# Altium footprint library ICfootprint3.PcbLib: 77 footprints (part 3 of 5)
Each footprint in its own frame and in the unit in brackets; x right, y up, seen from the top. Pads: shape width x height; smd on the part's side, far side on the other; paste and mask are expansions set on the pad; w line width, h text height; cw(c..) or ccw(c..) is an arc to the next point about the centre after c.
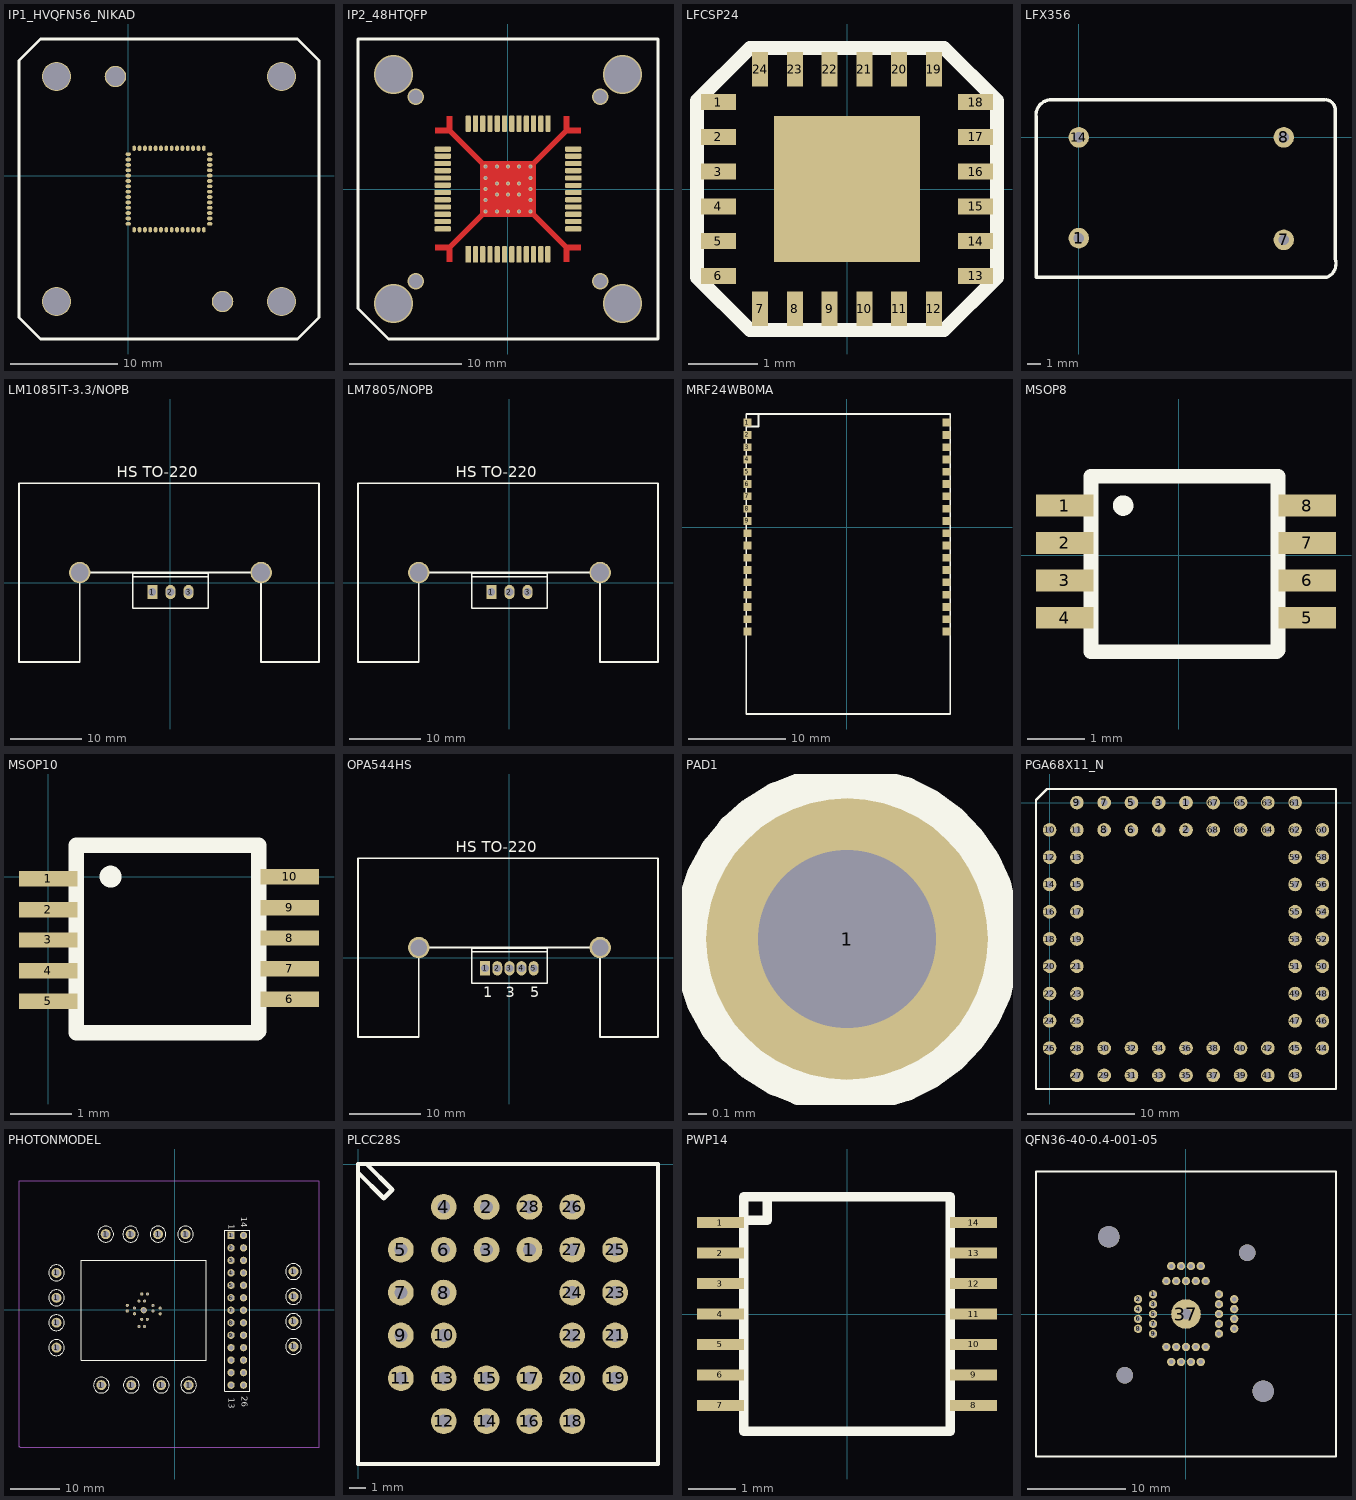
[diagram p2: the footprints below, top view; thin cyan lines are the x and y axes]

## IP1_HVQFN56_NIKAD [mm] "IP1 NICAD Socket"
pads (62):
  oval 0.5x0.35 smd: 1(0,2) 2(0,1.5) 3(0,1) 4(0,0.5) 5(0,0) 6(0,-0.5) 7(0,-1) 8(0,-1.5) 9(0,-2) 10(0,-2.5) 11(0,-3) 12(0,-3.5) 13(0,-4) 14(0,-4.5) 29(7.6,-4.5) 30(7.6,-4) 31(7.6,-3.5) 32(7.6,-3) 33(7.6,-2.5) 34(7.6,-2) 35(7.6,-1.5) 36(7.6,-1) 37(7.6,-0.5) 38(7.6,0) 39(7.6,0.5) 40(7.6,1) 41(7.6,1.5) 42(7.6,2)
  oval 0.35x0.5 smd: 15(0.55,-5.05) 16(1.05,-5.05) 17(1.55,-5.05) 18(2.05,-5.05) 19(2.55,-5.05) 20(3.05,-5.05) 21(3.55,-5.05) 22(4.05,-5.05) 23(4.55,-5.05) 24(5.05,-5.05) 25(5.55,-5.05) 26(6.05,-5.05) 27(6.55,-5.05) 28(7.05,-5.05) 43(7.05,2.55) 44(6.55,2.55) 45(6.05,2.55) 46(5.55,2.55) 47(5.05,2.55) 48(4.55,2.55) 49(4.05,2.55) 50(3.55,2.55) 51(3.05,2.55) 52(2.55,2.55) 53(2.05,2.55) 54(1.55,2.55) 55(1.05,2.55) 56(0.55,2.55)
  round 2.7 hole 2.5 unplated mask+0.051: ""(-6.7,-11.75) ""(-6.7,9.25) ""(14.3,-11.75) ""(14.3,9.25)
  round 2 hole 1.8 unplated mask+0.051: ""(-1.2,9.25) ""(8.8,-11.75)
Top Overlay:
  lines w0.254: -10.2,-13.25 -10.2,10.75 -8.2,12.75 15.8,12.75 17.8,10.75 17.8,-13.25 15.8,-15.25 -8.2,-15.25 -10.2,-13.25

## IP2_48HTQFP [mm] "IP2 SOCKET"
height 10.22
pads (48):
  rect 0.46x1.5 smd mask+0.05: 1(-3.562,-5.85)
  rrect50% 0.46x1.5 smd mask+0.05: 2(-2.912,-5.85) 3(-2.262,-5.85) 4(-1.612,-5.85) 5(-0.962,-5.85) 6(-0.312,-5.85) 7(0.338,-5.85) 8(0.988,-5.85) 9(1.638,-5.85) 10(2.288,-5.85) 11(2.938,-5.85) 12(3.563,-5.85) 25(3.575,5.85) 26(2.938,5.85) 27(2.288,5.85) 28(1.638,5.85) 29(0.988,5.85) 30(0.338,5.85) 31(-0.312,5.85) 32(-0.962,5.85) 33(-1.612,5.85) 34(-2.262,5.85) 35(-2.912,5.85) 36(-3.562,5.85)
  rrect50% 1.5x0.46 smd mask+0.05: 13(5.85,-3.562) 14(5.85,-2.913) 15(5.85,-2.262) 16(5.85,-1.613) 17(5.85,-0.962) 18(5.85,-0.313) 19(5.85,0.325) 20(5.85,0.987) 21(5.85,1.637) 22(5.85,2.287) 23(5.85,2.937) 24(5.85,3.562) 37(-5.85,3.562) 38(-5.85,2.937) 39(-5.85,2.287) 40(-5.85,1.637) 41(-5.85,0.987) 42(-5.85,0.337) 43(-5.85,-0.313) 44(-5.85,-0.962) 45(-5.85,-1.613) 46(-5.85,-2.262) 47(-5.85,-2.913) 48(-5.85,-3.562)
via -1,0.5 diameter 0.35 hole 0.2
via 1,0.5 diameter 0.35 hole 0.2
via 0,0.5 diameter 0.35 hole 0.2
via -1,-0.5 diameter 0.35 hole 0.2
via 0,-0.5 diameter 0.35 hole 0.22
via 1,-0.5 diameter 0.35 hole 0.2
via -1,2 diameter 0.35 hole 0.2
via -2,2 diameter 0.35 hole 0.2
via 0,2 diameter 0.35 hole 0.2
via 1,2 diameter 0.35 hole 0.2
via 2,2 diameter 0.35 hole 0.2
via 2,1 diameter 0.35 hole 0.2
via 2,0 diameter 0.35 hole 0.2
via 2,-1 diameter 0.35 hole 0.2
via 2,-2 diameter 0.35 hole 0.2
via 1,-2 diameter 0.35 hole 0.2
via 0,-2 diameter 0.35 hole 0.2
via -1,-2 diameter 0.35 hole 0.2
via -2,-2 diameter 0.35 hole 0.2
via -2,-1 diameter 0.35 hole 0.2
via -2,0 diameter 0.35 hole 0.2
via -2,1 diameter 0.35 hole 0.2
via 10.255,10.255 diameter 3.5 hole 3.2
via -10.255,10.255 diameter 3.5 hole 3.2
via -10.255,-10.255 diameter 3.5 hole 3.2
via 10.255,-10.255 diameter 3.5 hole 3.2
via 8.255,8.255 diameter 1.5 hole 1.2
via 8.255,-8.255 diameter 1.5 hole 1.2
via -8.255,-8.255 diameter 1.5 hole 1.2
via -8.255,8.255 diameter 1.5 hole 1.2
Top Layer:
  rectangle: -2.5,-2.5 2.5,2.5
  region: 5,6.5 5,5 6.5,5 6.5,5.5 5.5,5.5 5.5,6.5
  region: -6.5,5 -5,5 -5,6.5 -5.5,6.5 -5.5,5.5 -6.5,5.5
  region: -5,-6.5 -5,-5 -6.5,-5 -6.5,-5.5 -5.5,-5.5 -5.5,-6.5
  region: 6.5,-5 5,-5 5,-6.5 5.5,-6.5 5.5,-5.5 6.5,-5.5
  lines w0.5: -5.25,-5.25 -2,-2 ; -5.25,5.25 -2,2 ; 2,-2 5.25,-5.25 ; 2,2 5.25,5.25
Top Overlay:
  lines w0.254: -13.43,-10.7 -10.7,-13.43 13.43,-13.43 13.43,13.43 0,13.43 -13.43,13.43 -13.43,-9.43 -13.43,-10.7

## LFCSP24 [mm]
pads (25):
  rect 0.5x0.23 smd mask+0.02: 1(-1.85,1.25) 2(-1.85,0.75) 3(-1.85,0.25) 4(-1.85,-0.25) 5(-1.85,-0.75) 6(-1.85,-1.25) 13(1.85,-1.25) 14(1.85,-0.75) 15(1.85,-0.25) 16(1.85,0.25) 17(1.85,0.75) 18(1.85,1.25)
  rect 0.23x0.5 smd mask+0.02: 7(-1.25,-1.725) 8(-0.75,-1.725) 9(-0.25,-1.725) 10(0.25,-1.725) 11(0.75,-1.725) 12(1.25,-1.725) 19(1.25,1.725) 20(0.75,1.725) 21(0.25,1.725) 22(-0.25,1.725) 23(-0.75,1.725) 24(-1.25,1.725)
  rect 2.1x2.1 smd mask+0.02: ""(0,0)
Top Overlay:
  lines w0.203: -2.159,-1.27 -2.159,1.27 -1.397,2.032 1.397,2.032 2.159,1.27 2.159,-1.27 1.397,-2.032 -1.397,-2.032 -2.159,-1.27

## LFX356 [mil] "20 MHz Oscillator"
pads (4):
  round 60 hole 30: 1(0,-295) 7(600,-300) 8(600,0) 14(0,0)
Top Overlay:
  lines w10: 720,110 -85,110 ccw(c-80,65) -125,60 -125,-370 -125,-410 725,-410 ccw(c710,-370) 750,-355 750,75 ccw(c720,80) 725,110

## LM1085IT-3.3/NOPB [mm]
pads (5):
  rect 1.4x2 hole 1.1: 1(-2.54,-1.27)
  oval 1.4x2 hole 1.1: 2(0,-1.27) 3(2.54,-1.27)
  round 3 hole 2.5 mask+0: ""(-12.7,1.45) ""(12.7,1.45)
Top Overlay:
  lines w0.2: -5.3,0.85 5.3,0.85 ; -5.3,-3.55 -5.3,1.35 5.3,1.35 5.3,-3.55 -5.3,-3.55
  lines w0.254: -21.2,-11.05 -12.7,-11.05 -12.7,1.45 12.7,1.45 12.7,-11.05 20.8,-11.05 20.8,13.95 -21.2,13.95 -21.2,-11.05
  text "HS TO-220" at -7.518,14.831 h1.52

## LM7805/NOPB [mm]
pads (5):
  rect 1.4x2 hole 1.1: 1(-2.54,-1.27)
  oval 1.4x2 hole 1.1: 2(0,-1.27) 3(2.54,-1.27)
  round 3 hole 2.5 mask+0: ""(-12.7,1.45) ""(12.7,1.45)
Top Overlay:
  lines w0.2: -5.3,0.85 5.3,0.85 ; -5.3,-3.55 5.3,-3.55 5.3,1.35 -5.3,1.35 -5.3,-3.55
  lines w0.254: -21.2,-11.05 -21.2,13.95 20.8,13.95 20.8,-11.05 12.7,-11.05 12.7,1.45 -12.7,1.45 -12.7,-11.05 -21.2,-11.05
  text "HS TO-220" at -7.518,14.831 h1.52

## MRF24WB0MA [mm] "WiFi module"
pads (36):
  rect 0.85x0.8 smd mask+0: 1(-10.287,10.795) 2(-10.287,9.525) 3(-10.287,8.255) 4(-10.287,6.985) 5(-10.287,5.715) 6(-10.287,4.445) 7(-10.287,3.175) 8(-10.287,1.905) 9(-10.287,0.635) 10(-10.287,-0.635) 11(-10.287,-1.905) 12(-10.287,-3.175) 13(-10.287,-4.445) 14(-10.287,-5.715) 15(-10.287,-6.985) 16(-10.287,-8.255) 17(-10.287,-9.525) 18(-10.287,-10.795) 19(10.288,-10.795) 20(10.288,-9.525) 21(10.288,-8.255) 22(10.288,-6.985) 23(10.288,-5.715) 24(10.288,-4.445) 25(10.288,-3.175) 26(10.288,-1.905) 27(10.288,-0.635) 28(10.288,0.635) 29(10.288,1.905) 30(10.288,3.175) 31(10.288,4.445) 32(10.288,5.715) 33(10.288,6.985) 34(10.288,8.255) 35(10.288,9.525) 36(10.288,10.795)
Top Overlay:
  lines w0.2: -10.414,10.414 -9.144,10.414 -9.144,11.684 ; 10.586,-19.316 -10.414,-19.316 -10.414,11.684 10.586,11.684 ; 10.668,-19.316 10.668,11.684

## MSOP8 [mm]
pads (8):
  rect 1x0.38 smd: 1(-1.981,0.864) 2(-1.981,0.214) 3(-1.981,-0.436) 4(-1.981,-1.086) 5(2.235,-1.086) 6(2.235,-0.436) 7(2.235,0.214) 8(2.235,0.864)
Top Overlay:
  circle w0.254: c-0.965,0.864 r0.051
  lines w0.254: -1.524,-1.676 -1.524,1.372 1.727,1.372 1.727,-1.651 1.702,-1.676 -1.524,-1.676

## MSOP10 [mm]
pads (10):
  rect 0.95x0.25 smd: 1(0,-0.032) 2(0,-0.54) 3(0,-1.032) 4(0,-1.532) 5(0,-2.032) 6(3.937,-2) 7(3.937,-1.5) 8(3.937,-1) 9(3.937,-0.508) 10(3.937,0)
Top Overlay:
  circle w0.254: c1.016,0 r0.051
  lines w0.254: 3.404,-2.54 0.457,-2.54 0.457,0.508 3.429,0.508 3.429,-2.515

## OPA544HS [mm]
pads (7):
  rect 1.4x2 hole 1.1: 1(-3.4,-1.45)
  oval 1.4x2 hole 1.1: 2(-1.7,-1.45) 3(0,-1.45) 4(1.7,-1.45) 5(3.4,-1.45)
  round 3 hole 2.3 mask+0: ""(-12.7,1.45) ""(12.7,1.45)
Top Overlay:
  lines w0.2: -5.3,0.85 5.3,0.85 ; -5.3,-3.55 5.3,-3.55 5.3,1.35 -5.3,1.35 -5.3,-3.55
  lines w0.254: -21.2,-11.05 -21.2,13.95 20.8,13.95 20.8,-11.05 12.7,-11.05 12.7,1.45 -12.7,1.45 -12.7,-11.05 -21.2,-11.05
  text "1" at -3.65,-5.525 h1.5
  text "3" at -0.5,-5.525 h1.5
  text "5" at 2.9,-5.525 h1.5
  text "HS TO-220" at -7.518,14.831 h1.52

## PAD1 [mil] "PAD 38 mill"
pads (1):
  round 60 hole 38: 1(0,0)
Top Overlay:
  circle w10: c0,0 r31.94

## PGA68X11_N [mm]
pads (68):
  round 1.27 hole 0.635: 1(12.7,0) 2(12.7,-2.54) 3(10.16,0) 4(10.16,-2.54) 5(7.62,0) 6(7.62,-2.54) 7(5.08,0) 8(5.08,-2.54) 9(2.54,0) 10(0,-2.54) 11(2.54,-2.54) 12(0,-5.08) 13(2.54,-5.08) 14(0,-7.62) 15(2.54,-7.62) 16(0,-10.16) 17(2.54,-10.16) 18(0,-12.7) 19(2.54,-12.7) 20(0,-15.24) 21(2.54,-15.24) 22(0,-17.78) 23(2.54,-17.78) 24(0,-20.32) 25(2.54,-20.32) 26(0,-22.86) 27(2.54,-25.4) 28(2.54,-22.86) 29(5.08,-25.4) 30(5.08,-22.86) 31(7.62,-25.4) 32(7.62,-22.86) 33(10.16,-25.4) 34(10.16,-22.86) 35(12.7,-25.4) 36(12.7,-22.86) 37(15.24,-25.4) 38(15.24,-22.86) 39(17.78,-25.4) 40(17.78,-22.86) 41(20.32,-25.4) 42(20.32,-22.86) 43(22.86,-25.4) 44(25.4,-22.86) 45(22.86,-22.86) 46(25.4,-20.32) 47(22.86,-20.32) 48(25.4,-17.78) 49(22.86,-17.78) 50(25.4,-15.24) 51(22.86,-15.24) 52(25.4,-12.7) 53(22.86,-12.7) 54(25.4,-10.16) 55(22.86,-10.16) 56(25.4,-7.62) 57(22.86,-7.62) 58(25.4,-5.08) 59(22.86,-5.08) 60(25.4,-2.54) 61(22.86,0) 62(22.86,-2.54) 63(20.32,0) 64(20.32,-2.54) 65(17.78,0) 66(17.78,-2.54) 67(15.24,0) 68(15.24,-2.54)
Top Overlay:
  lines w0.203: -1.27,-26.67 26.67,-26.67 26.67,1.27 -0.254,1.27 -1.27,0.254 -1.27,-26.67

## PHOTONMODEL [mil]
pads (59):
  round 80 hole 50: 1(-950,-305) 1(-950,-105) 1(-950,95) 1(-950,295) 1(-590,-605) 1(-555,605) 1(-355,605) 1(-350,-605) 1(-135,605) 1(-110,-605) 1(85,605) 1(110,-605) 1(950,-295) 1(950,-95) 1(950,105) 1(950,305)
  round 25 hole 15 mask+2: 1(-381.95,34.59) 2(-324.12,11.96) 3(-381.95,-10.68) 4(-324.12,-33.32) 5(-289.07,-135.52) 6(-266.43,-77.7) 7(-243.79,-135.52) 8(-221.15,-77.7) 9(-118.05,-33.41) 10(-175.88,-10.77) 11(-118.05,11.87) 12(-175.88,34.51) 13(-220.54,125.52) 14(-243.79,67.8) 15(-265.82,125.52) 16(-288.45,67.7)
  round 50 hole 38 mask+2: 1(-250.15,-4.3)
  rect 59.06x59.06 hole 35.43: 1(450,595)
  round 59.06 hole 35.43: 2(450,495) 3(450,395) 4(450,295) 5(450,195) 6(450,95) 7(450,-5) 8(450,-105) 9(450,-205) 10(450,-305) 11(450,-405) 12(450,-505) 13(450,-605) 14(550,595) 15(550,495) 16(550,395) 17(550,295) 18(550,195) 19(550,95) 20(550,-5) 21(550,-105) 22(550,-205) 23(550,-305) 24(550,-405) 25(550,-505) 26(550,-605)
Top Overlay:
  circle w10: c-555,605 r63.25
  circle w10: c-355,605 r63.25
  circle w10: c85,605 r63.25
  circle w10: c-135,605 r63.25
  circle w10: c950,305 r63.25
  circle w10: c950,105 r63.25
  circle w10: c950,-95 r63.25
  circle w10: c950,-295 r63.25
  circle w10: c110,-605 r63.25
  circle w10: c-350,-605 r63.25
  circle w10: c-110,-605 r63.25
  circle w10: c-590,-605 r63.25
  circle w10: c-950,-305 r63.25
  circle w10: c-950,-105 r63.25
  circle w10: c-950,95 r63.25
  circle w10: c-950,295 r63.25
  lines w7.87: -750,-405 -750,-5 -750,395 -250,395 250,395 250,-5 250,-405 -250,-405 -750,-405 ; 400,-655 400,636.67 600,636.67 600,-655 400,-655
  text "1" at 430,685 h50
  text "14" at 530,745 h50
  text "13" at 430,-705 h50
  text "26" at 535,-695 h50
Drill Guide:
  circle w10: c951.26,895 r78.74
  circle w10: c-948.74,-905 r78.74
  circle w10: c-5.15,240.7 r33
  circle w10: c-495.15,-249.3 r33
Mechanical 1:
  lines w7.87: -1250,-1105 -1250,995 -1250,1035 1155,1035 1155,-1105 -1240,-1105 -1250,-1095

## PLCC28S [mil] "PLCC socket"
pads (28):
  round 60 hole 30: 1(400,-200) 2(300,-100) 3(300,-200) 4(200,-100) 5(100,-200) 6(200,-200) 7(100,-300) 8(200,-300) 9(100,-400) 10(200,-400) 11(100,-500) 12(200,-600) 13(200,-500) 14(300,-600) 15(300,-500) 16(400,-600) 17(400,-500) 18(500,-600) 19(600,-500) 20(500,-500) 21(600,-400) 22(500,-400) 23(600,-300) 24(500,-300) 25(600,-200) 26(500,-100) 27(500,-200) 28(400,-100)
Top Overlay:
  lines w10: 0,-20 60,-80 80,-60 20,0 ; 0,-700 700,-700 700,0 0,0 0,-700

## PWP14 [mm]
pads (14):
  rect 1x0.24 smd mask+0: 1(-2.7,1.95) 2(-2.7,1.3) 3(-2.7,0.65) 4(-2.7,0) 5(-2.7,-0.65) 6(-2.7,-1.3) 7(-2.7,-1.95) 8(2.7,-1.95) 9(2.7,-1.3) 10(2.7,-0.65) 11(2.7,0) 12(2.7,0.65) 13(2.7,1.3) 14(2.7,1.95)
Top Overlay:
  lines w0.2: -2.2,2 -1.7,2 -1.7,2.5 ; -2.2,-2.5 2.2,-2.5 2.2,2.5 -2.2,2.5 -2.2,-2.5

## QFN36-40-0.4-001-05 [mm] "TJA1100 QFN36 socket"
pads (41):
  round 0.85 hole 0.45 mask+0.02: 1(-3.35,2) 2(-4.875,1.5) 3(-3.35,1) 4(-4.875,0.5) 5(-3.35,0) 6(-4.875,-0.5) 7(-3.35,-1) 8(-4.875,-1.5) 9(-3.35,-2) 10(-2,-3.35) 11(-1.5,-4.875) 12(-1,-3.35) 13(-0.5,-4.875) 14(0,-3.35) 15(0.5,-4.875) 16(1,-3.35) 17(1.5,-4.875) 18(2,-3.35) 19(3.35,-2) 20(4.9,-1.5) 21(3.35,-1) 22(4.9,-0.5) 23(3.35,0) 24(4.9,0.5) 25(3.35,1) 26(4.9,1.5) 27(3.35,2) 28(2,3.35) 29(1.5,4.875) 30(1,3.35) 31(0.5,4.875) 32(0,3.35) 33(-0.5,4.875) 34(-1,3.35) 35(-1.5,4.875) 36(-2,3.35)
  round 3 hole 1.1 mask+0.02: 37(0,0)
  round 2.2 hole 2.2 mask+0.02: ""(-7.85,7.85) ""(7.85,-7.85)
  round 1.7 hole 1.7 mask+0.02: ""(-6.225,-6.225) ""(6.225,6.225)
Top Overlay:
  lines w0.2: -15.25,-14.5 15.25,-14.5 15.25,14.5 -15.25,14.5 -15.25,-14.5